# EAGLE library part EXAR-RS485-NSOIC (library jonsowman)
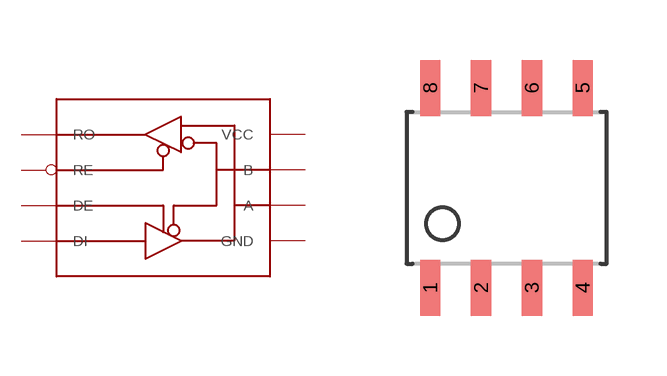
[diagram p3: symbol with the pads of RS485-NSOIC; footprint RS485-NSOIC]

Designator prefix -

## EXAR-RS485-NSOIC  [RS485-NSOIC]
1  RO  out
2  RE  in
3  DE  in
4  DI  in
5  GND  pwr
6  A  out
7  B  out
8  VCC  pwr

## Footprint RS485-NSOIC (pad centres in mm)
smd 0.508 x 1.4: 1 -1.905,-2.5; 2 -0.635,-2.5; 3 0.635,-2.5; 4 1.905,-2.5; 5 1.905,2.5; 6 0.635,2.5; 7 -0.635,2.5; 8 -1.905,2.5